# Altium schematic symbol library PJ366ST.SchLib: 1 symbol
Pins are listed as number, name and electrical type; pins without a type are passive.

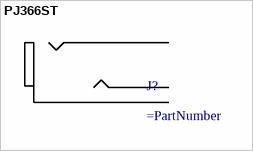
[diagram p0: symbol PJ366ST]

## PJ366ST
designator J?
pins: 1, 2, 3